# Altium schematic symbol library TLV320AIC3104IRHBR.SchLib: 1 symbol
Pins are listed as number, name and electrical type; pins without a type are passive.

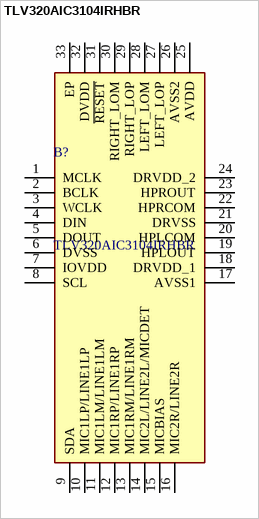
[diagram p0: symbol TLV320AIC3104IRHBR]

## TLV320AIC3104IRHBR
designator B?
Low-Power Stereo CODEC with 6 Inputs, 6 Outputs, HP Amp and Enhanced Digital Effects; Manufacturer_Name: Texas Instruments; Geometry.Height: 1mm; Mouser Part Number: 595-TLV320C3104IRHBR; Mouser Price/Stock: https://www.mouser.co.uk/ProductDetail/Texas-Instruments/TLV320AIC3104IRHBR?qs=t6sYTo5dwUzbYVbTYmm%2FAg%3D%3D; Manufacturer_Part_Number: TLV320AIC3104IRHBR; Datasheet Link: http://www.ti.com/lit/ds/symlink/tlv320aic3104.pdf
footprint QFN50P500X500X100-33N-D
pins: 1 MCLK, 2 BCLK, 3 WCLK, 4 DIN, 5 DOUT, 6 DVSS, 7 IOVDD, 8 SCL, 9 SDA, 10 MIC1LP/LINE1LP, 11 MIC1LM/LINE1LM, 12 MIC1RP/LINE1RP, 13 MIC1RM/LINE1RM, 14 MIC2L/LINE2L/MICDET, 15 MICBIAS, 16 MIC2R/LINE2R, 17 AVSS1, 18 DRVDD_1, 19 HPLOUT, 20 HPLCOM, 21 DRVSS, 22 HPRCOM, 23 HPROUT, 24 DRVDD_2, 25 AVDD, 26 AVSS2, 27 LEFT_LOP, 28 LEFT_LOM, 29 RIGHT_LOP, 30 RIGHT_LOM, 31 ~{RESET}, 32 DVDD, 33 EP